# EAGLE library part AP65 (library Regulator)
Fast Switching Regualtor
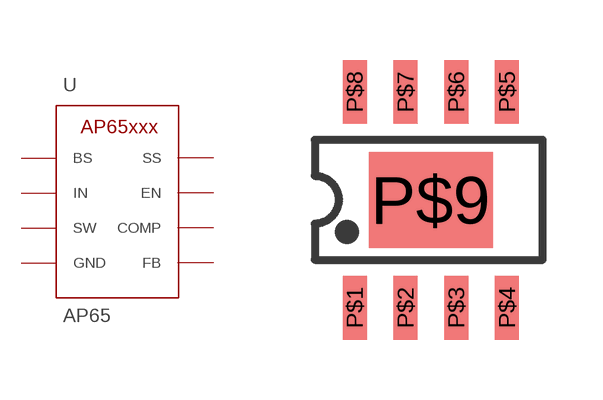
[diagram p0: symbol with the pads of SO-8/PAD; footprint SO-8/PAD]

Designator prefix U

## AP65500SP-13  [SO-8/PAD]
P$1  BS
P$2  IN
P$3  SW
P$4  GND  pwr
P$5  FB
P$6  COMP
P$7  EN
P$8  SS
P$9  GND  pwr

## AP65200FK-7  [SO-8/PAD]
Pads as for SO-8/PAD

## Footprint SO-8/PAD (pad centres in mm)
smd 0.6 x 1.6: P$1 -1.9,-2.7; P$2 -0.63,-2.7; P$3 0.64,-2.7; P$4 1.91,-2.7; P$5 1.91,2.7; P$6 0.64,2.7; P$7 -0.63,2.7; P$8 -1.9,2.7
smd 3.1 x 2.4: P$9 0,0